# EAGLE library part APA102-2020 (library POVPARTS)
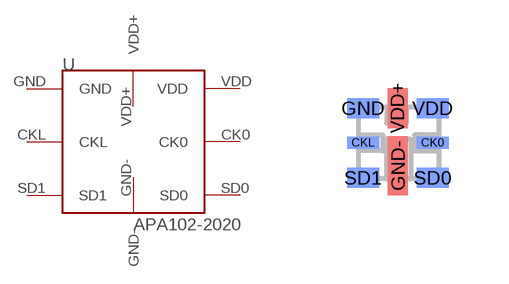
[diagram p0: symbol with the pads of APA102-2020; footprint APA102-2020]

Designator prefix -

## APA102-202020-20  [APA102-2020]
CK0  CK0
CKL  CKL
GND  GND
GND-  GND-
SD0  SD0
SD1  SD1
VDD  VDD
VDD+  VDD+

## Footprint APA102-2020 (pad centres in mm)
smd 0.8 x 0.3 bottom: CK0 2.14,1.27; CKL 0.4,1.27
smd 0.8 x 0.5 bottom: GND 0.4,2.14; SD0 2.14,0.4; SD1 0.4,0.4; VDD 2.14,2.14
smd 0.5 x 1.48: GND- 1.27,0.7
smd 0.5 x 1: VDD+ 1.27,2.14